# Altium footprint library INDUCTOR.PcbLib: 1 footprints
Each footprint in its own frame and in the unit in brackets; x right, y up, seen from the top. Pads: shape width x height; smd on the part's side, far side on the other; paste and mask are expansions set on the pad; w line width, h text height; cw(c..) or ccw(c..) is an arc to the next point about the centre after c.
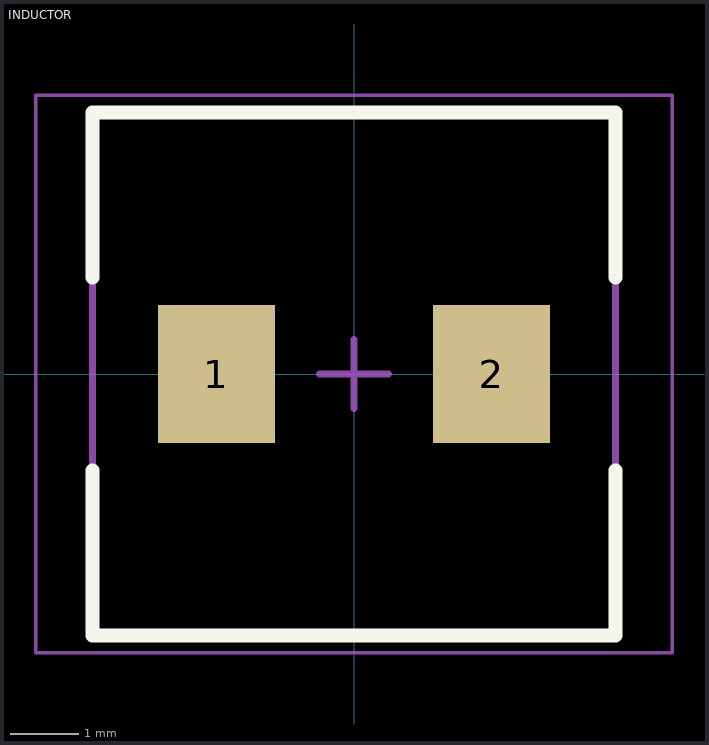
[diagram p0: the footprint, top view; thin cyan lines are the x and y axes]

## INDUCTOR [mm] "Precision Wire Wound Inductor, 2-Leads, Body 7.30x7.30mm, IPC Medium Density"
height 3.5
pads (2):
  rect 1.7x2 smd: 1(-2,0) 2(2,0)
Top Overlay:
  lines w0.2: -3.8,-1.4 -3.8,-3.8 3.8,-3.8 3.8,-1.4 ; -3.8,1.4 -3.8,3.8 3.8,3.8 3.8,1.4
Mechanical 13:
  lines w0.1: -3.8,-3.8 -3.8,3.8 3.8,3.8 3.8,-3.8 -3.8,-3.8
Mechanical 15:
  lines w0.05: -4.625,-4.05 -4.625,4.05 4.625,4.05 4.625,-4.05 -4.625,-4.05
  lines w0.1: -0.5,0 0.5,0 ; 0,-0.5 0,0.5
3D body "INDUCTOR.step": height 3.6, standoff 0, extent -3.75,-3.65 3.75,3.65